# Altium footprint library MC_4LAYER_INDICATOR.PcbLib: 1 footprints
Each footprint in its own frame and in the unit in brackets; x right, y up, seen from the top. Pads: shape width x height; smd on the part's side, far side on the other; paste and mask are expansions set on the pad; w line width, h text height; cw(c..) or ccw(c..) is an arc to the next point about the centre after c.
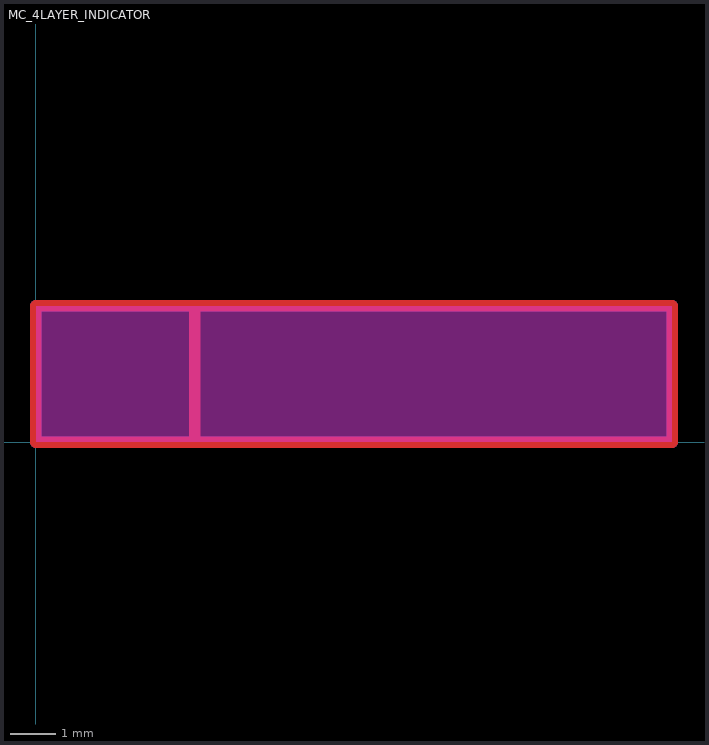
[diagram p0: the footprint, top view; thin cyan lines are the x and y axes]

## MC_4LAYER_INDICATOR [mm] "4 layer indicator"
Top Layer:
  lines w0.254: 3.5,0 3.5,3 ; 0,0 0,3 14,3 14,0 0,0
  text "1" at 1.5,0.5 h2
Mid-Layer 1:
  lines w0.254: 7,0 7,3 ; 0,0 0,3 14,3 14,0 0,0
  text "2" at 4.5,0.5 h2
Mid-Layer 2:
  lines w0.254: 10.5,0 10.5,3 ; 0,0 0,3 14,3 14,0 0,0
  text "3" at 8,0.5 h2
Bottom Layer:
  lines w0.254: 14,0 14,3 ; 14,0 14,0 ; 14,0 0,0 0,3 14,3 ; 14,3 14,3
  text "4" at 11.557,0.508 h2
Keep-Out Layer:
  rectangle: 0,0 14,3